# EAGLE library part ZXBM5210-S-13 (library RoboJackets-ICs)
3V-18V Motor Driver Power MOSFET PWM 8-SO Datasheet <https://www.diodes.com/assets/Datasheets/ZXBM5210.pdf>
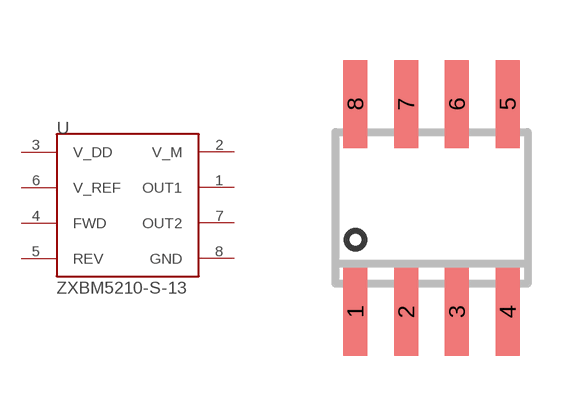
[diagram p7: symbol with the pads of SOIC-8; footprint SOIC-8]

Designator prefix U

## ZXBM5210-S-13 (DKPN: ZXBM5210-S-13DICT-ND)  [SOIC-8]
1  OUT1  out
2  V_M  pwr
3  V_DD  pwr
4  FWD  in
5  REV  in
6  V_REF  in
7  OUT2  out
8  GND  pwr

## Footprint SOIC-8 (pad centres in mm)
SMALL OUTLINE INTEGRATED CIRCUIT body 3.9 mm/JEDEC MS-012AA
smd 0.6 x 2.2: 1 -1.905,-2.6; 2 -0.635,-2.6; 3 0.635,-2.6; 4 1.905,-2.6; 5 1.905,2.6; 6 0.635,2.6; 7 -0.635,2.6; 8 -1.905,2.6